# EAGLE library part BQ24725ARGRR (library Battery Chargers)
Charger IC Lithium-Ion 20-VQFN (3.5x3.5) Manufacturer's datasheet <https://www.ti.com/lit/ds/symlink/bq24725a.pdf?HQS=TI-null-null-digikeymode-df-pf-null-wwe&ts=1594284853129>
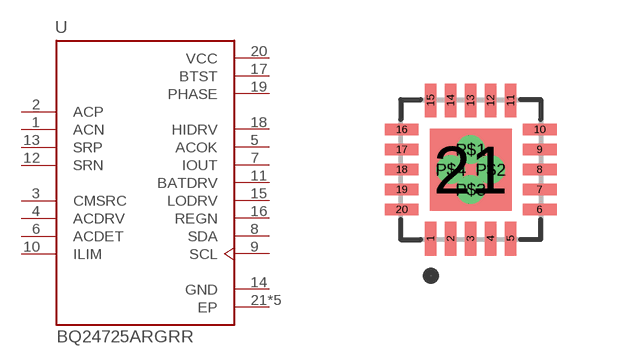
[diagram p3: symbol with the pads of BQ24725ARGRR; footprint BQ24725ARGRR]

Designator prefix U

## BQ24725ARGRR (CREATED_BY: PCBLayout.com; DIGIKEY_PART_NUMBER: 296-38879-1-ND; MANUFACTURER: Texas Instruments; MPN: BQ24725ARGRR; PACKAGE: 20-VQFN)  [BQ24725ARGRR]
1  ACN  in
2  ACP  in
3  CMSRC  in
4  ACDRV  in
5  ACOK  out
6  ACDET  in
7  IOUT  out
8  SDA
9  SCL  in
10  ILIM  in
11  BATDRV  out
12  SRN  in
13  SRP  in
14  GND  pwr
15  LODRV  out
16  REGN  out
17  BTST  pwr
18  HIDRV  out
19  PHASE  pwr
20  VCC  pwr
21  EP  pwr
P$1  EP  pwr
P$2  EP  pwr
P$3  EP  pwr
P$4  EP  pwr

## Footprint BQ24725ARGRR (pad centres in mm)
smd 0.28 x 0.85: 1 -1,-1.725; 2 -0.5,-1.725; 3 0,-1.725; 4 0.5,-1.725; 5 1,-1.725; 11 1,1.725; 12 0.5,1.725; 13 0,1.725; 14 -0.5,1.725; 15 -1,1.725
smd 0.85 x 0.28: 6 1.725,-1; 7 1.725,-0.5; 8 1.725,0; 9 1.725,0.5; 10 1.725,1; 16 -1.725,1; 17 -1.725,0.5; 18 -1.725,0; 19 -1.725,-0.5; 20 -1.725,-1
smd 2.05 x 2.05: 21 0,0
drill 0.2 pad 0.5: P$1 0,0.5; P$2 0.5,0; P$3 0,-0.5; P$4 -0.5,0